# EAGLE library part KW2_CPU (library KW2)
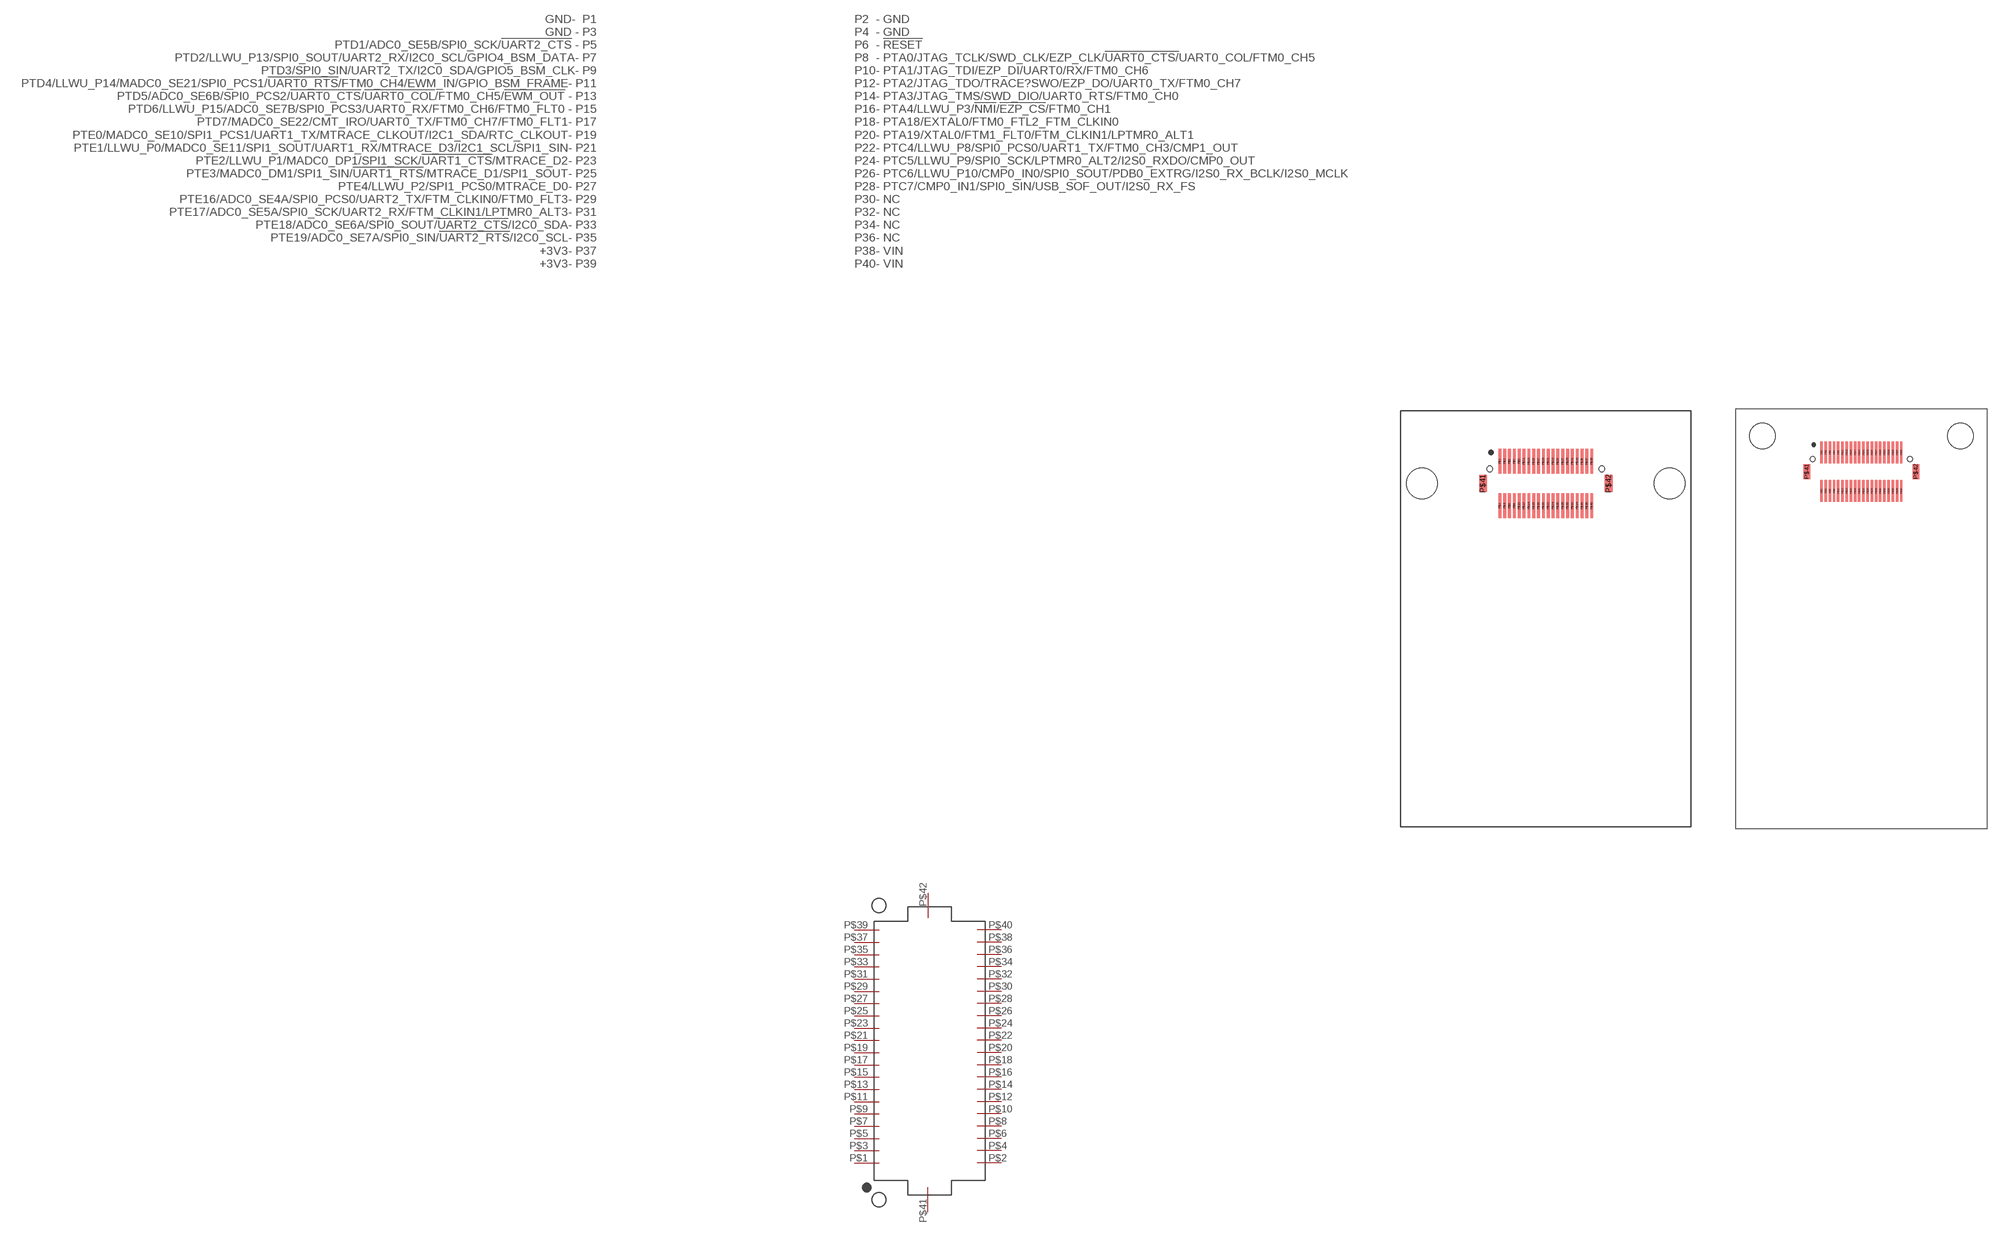
[diagram p9: symbol with the pads of BRAIN_NEW; footprints BRAIN_NEW, BRAIN_OLD]

Designator prefix U

## KW2_CPU_NEW  [BRAIN_NEW]
P$1  GND
P$2  GND
P$3  GND
P$4  GND
P$5  PTD1/ADC0_SE5B/SPI0_SCK/!UART2_CTS
P$6  !RESET
P$7  PTD2/LLWU_P13/SPI0_SOUT/UART2_RX/I2C0_SCL/GPIO4_BSM_DATA
P$8  PTA0/JTAG_TCLK/SWD_CLK/EZP_CLK/!UART0_CTS/!UART0_COL/FTM0_CH5
P$9  PTD3/SPI0_SIN/UART2_TX/I2C0_SDA/GPIO5_BSM_CLK
P$10  PTA1/JTAG_TDI/EZP_DI/UART0/RX/FTM0_CH6
P$11  PTD4/LLWU_P14/MADC0_SE21/SPI0_PCS1/!UART0_RTS!/FTM0_CH4/EWM_IN/GPIO_BSM_FRAME
P$12  PTA2/JTAG_TDO/TRACE?SWO/EZP_DO/UART0_TX/FTM0_CH7
P$13  PTD5/ADC0_SE6B/SPI0_PCS2/!UART0_CTS!/!UART0_COL!/FTM0_CH5/!EWM_OUT
P$14  PTA3/JTAG_TMS/SWD_DIO/UART0_RTS/FTM0_CH0
P$15  PTD6/LLWU_P15/ADC0_SE7B/SPI0_PCS3/UART0_RX/FTM0_CH6/FTM0_FLT0
P$16  PTA4/LLWU_P3/!NMI!/!EZP_CS!/FTM0_CH1
P$17  PTD7/MADC0_SE22/CMT_IRO/UART0_TX/FTM0_CH7/FTM0_FLT1
P$18  PTA18/EXTAL0/FTM0_FTL2_FTM_CLKIN0
P$19  PTE0/MADC0_SE10/SPI1_PCS1/UART1_TX/MTRACE_CLKOUT/I2C1_SDA/RTC_CLKOUT
P$20  PTA19/XTAL0/FTM1_FLT0/FTM_CLKIN1/LPTMR0_ALT1
P$21  PTE1/LLWU_P0/MADC0_SE11/SPI1_SOUT/UART1_RX/MTRACE_D3/I2C1_SCL/SPI1_SIN
P$22  PTC4/LLWU_P8/SPI0_PCS0/UART1_TX/FTM0_CH3/CMP1_OUT
P$23  PTE2/LLWU_P1/MADC0_DP1/SPI1_SCK/!UART1_CTS!/MTRACE_D2
P$24  PTC5/LLWU_P8/SPI0_PCS0/UART1_TX/FTM0_CH3/CMP1_OUT
P$25  PTE3/MADC0_DM1/SPI1_SIN/!UART1_RTS!/MTRACE_D1/SPI1_SOUT
P$26  PTC6/LLWU_P10/CMP0_IN0/SPI0_SOUT/PDB0_EXTRG/I2S0_RX_BCLK/I2S0_MCLK
P$27  PTE4/LLWU_P2/SPI1_PCS0/MTRACE_D0
P$28  PTC7/CMP0_IN1/SPI0_SIN/USB_SOF_OUT/I2S0_RX_FS
P$29  PTE16/ADC0_SE4A/SPI0_PCS0/UART2_TX/FTM_CLKIN0/FTM0_FLT3
P$30  NC
P$31  PTE17/ADC0_SE5A/SPI0_SCK/UART2_RX/FTM_CLKIN1/LPTMR0_ALT3
P$32  NC
P$33  PTE18/ADC0_SE6A/SPI0_SOUT/!UART2_CTS!/I2C0_SDA
P$34  NC
P$35  PTE19/ADC0_SE7A/SPI0_SIN/!UART2_RTS!/I2C0_SCL
P$36  NC
P$37  +3V3
P$38  VIN
P$39  +3V3
P$40  VIN
P$41  P$41
P$42  P$42

## KW2_CPU_OLD  [BRAIN_OLD]
P$1  GND
P$2  GND
P$3  GND
P$4  GND
P$5  PTD1/ADC0_SE5B/SPI0_SCK/!UART2_CTS
P$6  !RESET
P$7  PTD2/LLWU_P13/SPI0_SOUT/UART2_RX/I2C0_SCL/GPIO4_BSM_DATA
P$8  PTA0/JTAG_TCLK/SWD_CLK/EZP_CLK/!UART0_CTS/!UART0_COL/FTM0_CH5
P$9  PTD3/SPI0_SIN/UART2_TX/I2C0_SDA/GPIO5_BSM_CLK
P$10  PTA1/JTAG_TDI/EZP_DI/UART0/RX/FTM0_CH6
P$11  PTD4/LLWU_P14/MADC0_SE21/SPI0_PCS1/!UART0_RTS!/FTM0_CH4/EWM_IN/GPIO_BSM_FRAME
P$12  PTA2/JTAG_TDO/TRACE?SWO/EZP_DO/UART0_TX/FTM0_CH7
P$13  PTD5/ADC0_SE6B/SPI0_PCS2/!UART0_CTS!/!UART0_COL!/FTM0_CH5/!EWM_OUT
P$14  PTA3/JTAG_TMS/SWD_DIO/UART0_RTS/FTM0_CH0
P$15  PTD6/LLWU_P15/ADC0_SE7B/SPI0_PCS3/UART0_RX/FTM0_CH6/FTM0_FLT0
P$16  PTA4/LLWU_P3/!NMI!/!EZP_CS!/FTM0_CH1
P$17  PTD7/MADC0_SE22/CMT_IRO/UART0_TX/FTM0_CH7/FTM0_FLT1
P$18  PTA18/EXTAL0/FTM0_FTL2_FTM_CLKIN0
P$19  PTE0/MADC0_SE10/SPI1_PCS1/UART1_TX/MTRACE_CLKOUT/I2C1_SDA/RTC_CLKOUT
P$20  PTA19/XTAL0/FTM1_FLT0/FTM_CLKIN1/LPTMR0_ALT1
P$21  PTE1/LLWU_P0/MADC0_SE11/SPI1_SOUT/UART1_RX/MTRACE_D3/I2C1_SCL/SPI1_SIN
P$22  PTC4/LLWU_P8/SPI0_PCS0/UART1_TX/FTM0_CH3/CMP1_OUT
P$23  PTE2/LLWU_P1/MADC0_DP1/SPI1_SCK/!UART1_CTS!/MTRACE_D2
P$24  PTC5/LLWU_P8/SPI0_PCS0/UART1_TX/FTM0_CH3/CMP1_OUT
P$25  PTE3/MADC0_DM1/SPI1_SIN/!UART1_RTS!/MTRACE_D1/SPI1_SOUT
P$26  PTC6/LLWU_P10/CMP0_IN0/SPI0_SOUT/PDB0_EXTRG/I2S0_RX_BCLK/I2S0_MCLK
P$27  PTE4/LLWU_P2/SPI1_PCS0/MTRACE_D0
P$28  PTC7/CMP0_IN1/SPI0_SIN/USB_SOF_OUT/I2S0_RX_FS
P$29  PTE16/ADC0_SE4A/SPI0_PCS0/UART2_TX/FTM_CLKIN0/FTM0_FLT3
P$30  NC
P$31  PTE17/ADC0_SE5A/SPI0_SCK/UART2_RX/FTM_CLKIN1/LPTMR0_ALT3
P$32  NC
P$33  PTE18/ADC0_SE6A/SPI0_SOUT/!UART2_CTS!/I2C0_SDA
P$34  NC
P$35  PTE19/ADC0_SE7A/SPI0_SIN/!UART2_RTS!/I2C0_SCL
P$36  NC
P$37  +3V3
P$38  VIN
P$39  +3V3
P$40  VIN
P$41  P$41
P$42  P$42

## KW2_CPU_COMBO  [BRAIN_COMBO]
Pads as for BRAIN_NEW

## KW2_CPU_OFFSET  [BRAIN_OFFSET]
Pads as for BRAIN_NEW

## Footprint BRAIN_NEW (pad centres in mm)
smd 0.3 x 2.6: P$1 -4.75,2.3; P$2 -4.75,-2.3; P$3 -4.25,2.3; P$4 -4.25,-2.3; P$5 -3.75,2.3; P$6 -3.75,-2.3; P$7 -3.25,2.3; P$8 -3.25,-2.3; P$9 -2.75,2.3; P$10 -2.75,-2.3; P$11 -2.25,2.3; P$12 -2.25,-2.3; P$13 -1.75,2.3; P$14 -1.75,-2.3; P$15 -1.25,2.3; P$16 -1.25,-2.3; P$17 -0.75,2.3; P$18 -0.75,-2.3; P$19 -0.25,2.3; P$20 -0.25,-2.3; P$21 0.25,2.3; P$22 0.25,-2.3; P$23 0.75,2.3; P$24 0.75,-2.3; P$25 1.25,2.3; P$26 1.25,-2.3; P$27 1.75,2.3; P$28 1.75,-2.3; P$29 2.25,2.3; P$30 2.25,-2.3; P$31 2.75,2.3; P$32 2.75,-2.3; P$33 3.25,2.3; P$34 3.25,-2.3; P$35 3.75,2.3; P$36 3.75,-2.3; P$37 4.25,2.3; P$38 4.25,-2.3; P$39 4.75,2.3; P$40 4.75,-2.3
smd 0.8 x 1.8: P$41 -6.5,0; P$42 6.5,0
hole 0.6 at -5.8,1.5
hole 0.6 at 5.8,1.5
hole 3.2 at -12.8,0
hole 3.2 at 12.8,0

## Footprint BRAIN_OLD (pad centres in mm)
smd 0.3 x 2.6: P$1 -4.75,2.3; P$2 -4.75,-2.3; P$3 -4.25,2.3; P$4 -4.25,-2.3; P$5 -3.75,2.3; P$6 -3.75,-2.3; P$7 -3.25,2.3; P$8 -3.25,-2.3; P$9 -2.75,2.3; P$10 -2.75,-2.3; P$11 -2.25,2.3; P$12 -2.25,-2.3; P$13 -1.75,2.3; P$14 -1.75,-2.3; P$15 -1.25,2.3; P$16 -1.25,-2.3; P$17 -0.75,2.3; P$18 -0.75,-2.3; P$19 -0.25,2.3; P$20 -0.25,-2.3; P$21 0.25,2.3; P$22 0.25,-2.3; P$23 0.75,2.3; P$24 0.75,-2.3; P$25 1.25,2.3; P$26 1.25,-2.3; P$27 1.75,2.3; P$28 1.75,-2.3; P$29 2.25,2.3; P$30 2.25,-2.3; P$31 2.75,2.3; P$32 2.75,-2.3; P$33 3.25,2.3; P$34 3.25,-2.3; P$35 3.75,2.3; P$36 3.75,-2.3; P$37 4.25,2.3; P$38 4.25,-2.3; P$39 4.75,2.3; P$40 4.75,-2.3
smd 0.8 x 1.8: P$41 -6.5,0; P$42 6.5,0
hole 0.6 at -5.8,1.5
hole 0.6 at 5.8,1.5
hole 3.048 at -11.8,4.24
hole 3.048 at 11.8,4.24

## Footprint BRAIN_COMBO (pad centres in mm)
smd 0.3 x 2.6: P$1 -4.75,2.3; P$2 -4.75,-2.3; P$3 -4.25,2.3; P$4 -4.25,-2.3; P$5 -3.75,2.3; P$6 -3.75,-2.3; P$7 -3.25,2.3; P$8 -3.25,-2.3; P$9 -2.75,2.3; P$10 -2.75,-2.3; P$11 -2.25,2.3; P$12 -2.25,-2.3; P$13 -1.75,2.3; P$14 -1.75,-2.3; P$15 -1.25,2.3; P$16 -1.25,-2.3; P$17 -0.75,2.3; P$18 -0.75,-2.3; P$19 -0.25,2.3; P$20 -0.25,-2.3; P$21 0.25,2.3; P$22 0.25,-2.3; P$23 0.75,2.3; P$24 0.75,-2.3; P$25 1.25,2.3; P$26 1.25,-2.3; P$27 1.75,2.3; P$28 1.75,-2.3; P$29 2.25,2.3; P$30 2.25,-2.3; P$31 2.75,2.3; P$32 2.75,-2.3; P$33 3.25,2.3; P$34 3.25,-2.3; P$35 3.75,2.3; P$36 3.75,-2.3; P$37 4.25,2.3; P$38 4.25,-2.3; P$39 4.75,2.3; P$40 4.75,-2.3
smd 0.8 x 1.8: P$41 -6.5,0; P$42 6.5,0
hole 0.6 at -5.8,1.5
hole 0.6 at 5.8,1.5
hole 3.048 at -11.8,4.24
hole 3.048 at 11.8,4.24
hole 3.048 at -11.8,0
hole 3.048 at 11.8,0

## Footprint BRAIN_OFFSET (pad centres in mm)
smd 0.3 x 2.6: P$1 -4.75,2.3; P$2 -4.75,-2.3; P$3 -4.25,2.3; P$4 -4.25,-2.3; P$5 -3.75,2.3; P$6 -3.75,-2.3; P$7 -3.25,2.3; P$8 -3.25,-2.3; P$9 -2.75,2.3; P$10 -2.75,-2.3; P$11 -2.25,2.3; P$12 -2.25,-2.3; P$13 -1.75,2.3; P$14 -1.75,-2.3; P$15 -1.25,2.3; P$16 -1.25,-2.3; P$17 -0.75,2.3; P$18 -0.75,-2.3; P$19 -0.25,2.3; P$20 -0.25,-2.3; P$21 0.25,2.3; P$22 0.25,-2.3; P$23 0.75,2.3; P$24 0.75,-2.3; P$25 1.25,2.3; P$26 1.25,-2.3; P$27 1.75,2.3; P$28 1.75,-2.3; P$29 2.25,2.3; P$30 2.25,-2.3; P$31 2.75,2.3; P$32 2.75,-2.3; P$33 3.25,2.3; P$34 3.25,-2.3; P$35 3.75,2.3; P$36 3.75,-2.3; P$37 4.25,2.3; P$38 4.25,-2.3; P$39 4.75,2.3; P$40 4.75,-2.3
smd 0.8 x 1.8: P$41 -6.5,0; P$42 6.5,0
hole 0.6 at -5.8,1.5
hole 0.6 at 5.8,1.5
hole 3 at -11.8,4.5
hole 3 at 11.8,4.5
hole 3 at -11.8,0
hole 3 at 11.8,0